# Altium schematic symbol library C315C220J2G5TA.SchLib: 1 symbol
Pins are listed as number, name and electrical type; pins without a type are passive.

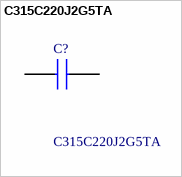
[diagram p0: symbol C315C220J2G5TA]

## C315C220J2G5TA
designator C?
GoldMax 300 Comm C0G, Ceramic, 22 pF, 5%, 200 VDC, 500 VDC, 125C, -55C, C0G, GoldMax, Commercial Standard, 0.1 % , 100 GOhms, 3.81mm, 3.14mm, 2.54mm, Lead Spacing = 2.54mm, 7mm, 0.51mm, 500, 120; Manufacturer_Name: KEMET; Mouser Part Number: 80-C315C220J2G; Mouser Price/Stock: https://www.mouser.co.uk/ProductDetail/KEMET/C315C220J2G5TA?qs=6DDjpUaD9G3WE9%2F2Ct37CQ%3D%3D; Manufacturer_Part_Number: C315C220J2G5TA; Datasheet Link: https://content.kemet.com/datasheets/KEM_C1049_GOLDMAX_C0G.pdf; Geometry.Height: 3.14mm
footprint C315
pins: 1, 2